# EAGLE library part XR-T5691P (library exar)
T1 receive BUFFER
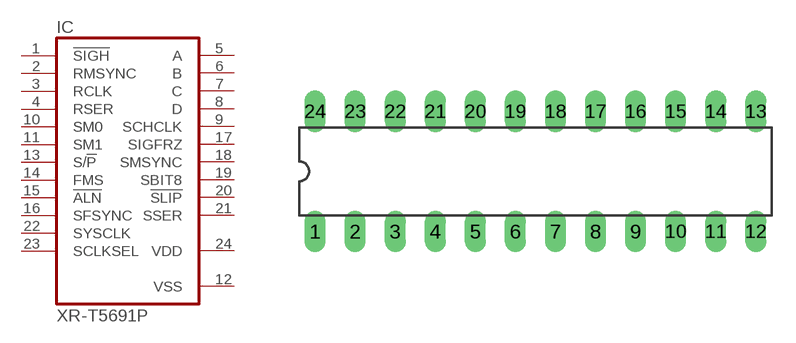
[diagram p107: symbol with the pads of DIL24-3; footprint DIL24-3]

Designator prefix IC

## XR-T5691P (OC_FARNELL: unknown; OC_NEWARK: unknown)  [DIL24-3]
1  !SIGH  in
2  RMSYNC  in
3  RCLK  in
4  RSER  in
5  A  out
6  B  out
7  C  out
8  D  out
9  SCHCLK  out
10  SM0  in
11  SM1  in
12  VSS  pwr
13  S/!P  in
14  FMS  in
15  !ALN  in
16  SFSYNC  in
17  SIGFRZ  out
18  SMSYNC  out
19  SBIT8  out
20  !SLIP  out
21  SSER  out
22  SYSCLK  in
23  SCLKSEL  in
24  VDD  pwr

## Footprint DIL24-3 (pad centres in mm)
Dual In Line Package 0.3 inch
drill 0.813 long: 1 -13.97,-3.81; 2 -11.43,-3.81; 3 -8.89,-3.81; 4 -6.35,-3.81; 5 -3.81,-3.81; 6 -1.27,-3.81; 7 1.27,-3.81; 8 3.81,-3.81; 9 6.35,-3.81; 10 8.89,-3.81; 11 11.43,-3.81; 12 13.97,-3.81; 13 13.97,3.81; 14 11.43,3.81; 15 8.89,3.81; 16 6.35,3.81; 17 3.81,3.81; 18 1.27,3.81; 19 -1.27,3.81; 20 -3.81,3.81; 21 -6.35,3.81; 22 -8.89,3.81; 23 -11.43,3.81; 24 -13.97,3.81